# EAGLE library part CC2430 (library chipcon-ti-v2-alliv)
A True System-on-Chip solution for 2.4 GHz IEEE 802.15.4 / ZigBee
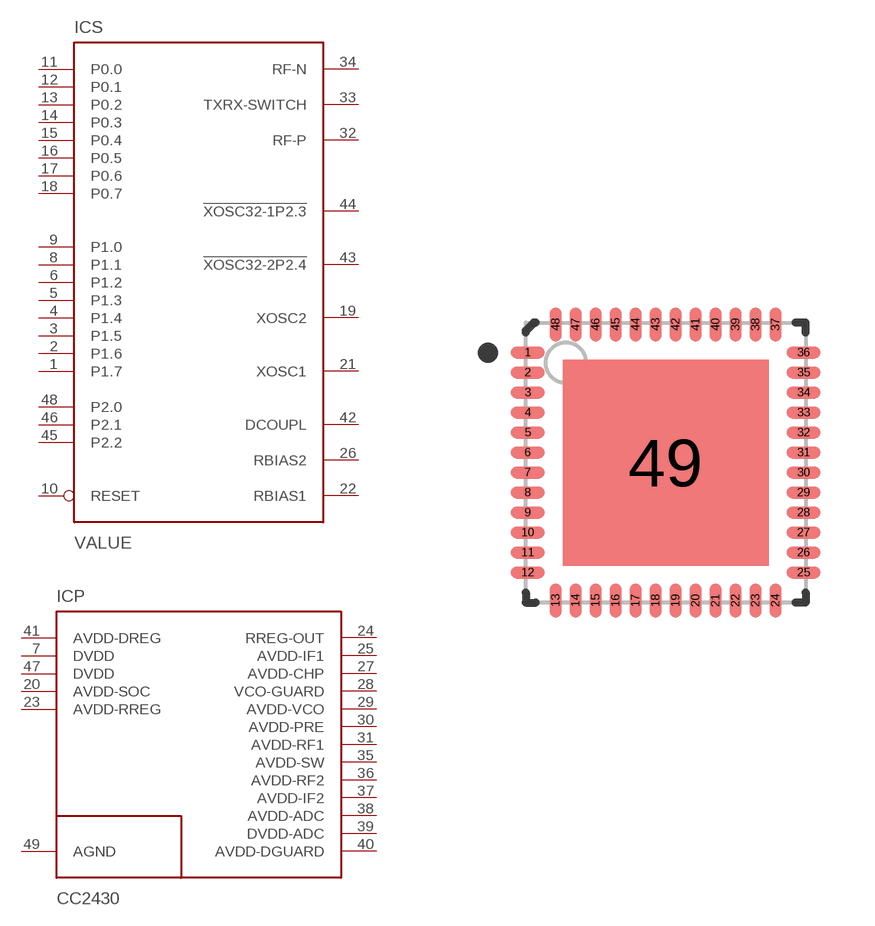
[diagram p11: symbol with the pads of QFN50P700X700X90-49N; footprint QFN50P700X700X90-49N]

Designator prefix IC; gates S=CC2430 P=CC2430-PWR

## CC2430  [QFN50P700X700X90-49N]
1  S:P1.7
2  S:P1.6
3  S:P1.5
4  S:P1.4
5  S:P1.3
6  S:P1.2
7  P:DVDD  pwr
8  S:P1.1
9  S:P1.0
10  S:RESET  in
11  S:P0.0
12  S:P0.1
13  S:P0.2
14  S:P0.3
15  S:P0.4
16  S:P0.5
17  S:P0.6
18  S:P0.7
19  S:XOSC2
20  P:AVDD-SOC  pwr
21  S:XOSC1
22  S:RBIAS1
23  P:AVDD-RREG  pwr
24  P:RREG-OUT  sup
25  P:AVDD-IF1  pwr
26  S:RBIAS2  pwr
27  P:AVDD-CHP  pwr
28  P:VCO-GUARD  pwr
29  P:AVDD-VCO  pwr
30  P:AVDD-PRE  pwr
31  P:AVDD-RF1  pwr
32  S:RF-P
33  S:TXRX-SWITCH  out
34  S:RF-N
35  P:AVDD-SW  pwr
36  P:AVDD-RF2  pwr
37  P:AVDD-IF2  pwr
38  P:AVDD-ADC  pwr
39  P:DVDD-ADC  pwr
40  P:AVDD-DGUARD  pwr
41  P:AVDD-DREG  pwr
42  S:DCOUPL
43  S:!XOSC32-2P2.4
44  S:!XOSC32-1P2.3
45  S:P2.2
46  S:P2.1
47  P:DVDD  pwr
48  S:P2.0
49  P:AGND  pwr

## Footprint QFN50P700X700X90-49N (pad centres in mm)
QFN,0.50mm pitch,square;48 pin,7.00mm L X 7.00mm W X 0.90mm H body (w/thermal tab) IPC7351A for VQFN48
smd 0.85 x 0.3: 1 -3.45,2.75; 2 -3.45,2.25; 3 -3.45,1.75; 4 -3.45,1.25; 5 -3.45,0.75; 6 -3.45,0.25; 7 -3.45,-0.25; 8 -3.45,-0.75; 9 -3.45,-1.25; 10 -3.45,-1.75; 11 -3.45,-2.25; 12 -3.45,-2.75; 25 3.45,-2.75; 26 3.45,-2.25; 27 3.45,-1.75; 28 3.45,-1.25; 29 3.45,-0.75; 30 3.45,-0.25; 31 3.45,0.25; 32 3.45,0.75; 33 3.45,1.25; 34 3.45,1.75; 35 3.45,2.25; 36 3.45,2.75
smd 0.3 x 0.85: 13 -2.75,-3.45; 14 -2.25,-3.45; 15 -1.75,-3.45; 16 -1.25,-3.45; 17 -0.75,-3.45; 18 -0.25,-3.45; 19 0.25,-3.45; 20 0.75,-3.45; 21 1.25,-3.45; 22 1.75,-3.45; 23 2.25,-3.45; 24 2.75,-3.45; 37 2.75,3.45; 38 2.25,3.45; 39 1.75,3.45; 40 1.25,3.45; 41 0.75,3.45; 42 0.25,3.45; 43 -0.25,3.45; 44 -0.75,3.45; 45 -1.25,3.45; 46 -1.75,3.45; 47 -2.25,3.45; 48 -2.75,3.45
smd 5.15 x 5.15: 49 0,0